# EAGLE library part A3S56 (library TL-WR703N)
256Mb DDR SDRAM Copyright © 2012, Michel Stempin, All rights reserved Licenced under Creative Commons CC BY-SA 3.0 <http://creativecommons.org/licenses/by-sa/3.0/deed.en> license.
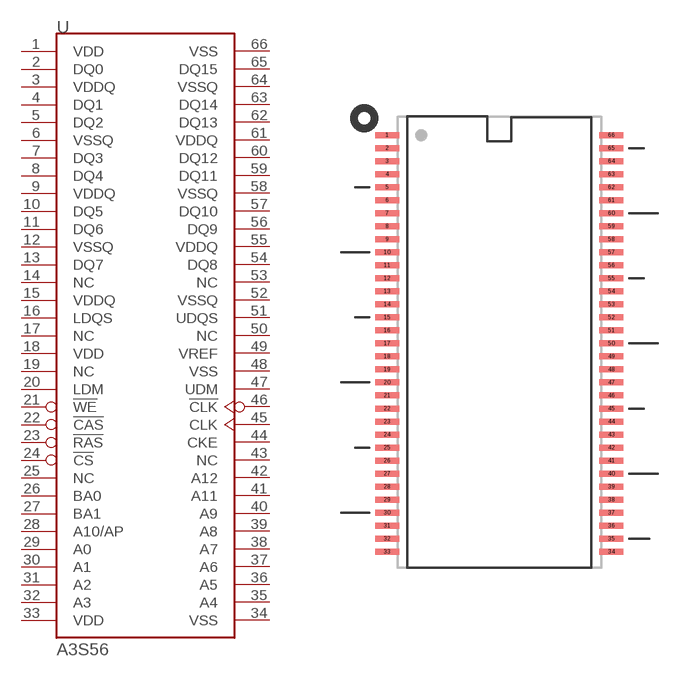
[diagram p1: symbol with the pads of TSOP66; footprint TSOP66]

Designator prefix U

## A3S56F30FTP (WIDTH: 8-bit), A3S56F40FTP (WIDTH: 16-bit)  [TSOP66]
1  VDD  pwr
2  DQ0
3  VDDQ  pwr
4  DQ1
5  DQ2
6  VSSQ  pwr
7  DQ3
8  DQ4
9  VDDQ  pwr
10  DQ5
11  DQ6
12  VSSQ  pwr
13  DQ7
14  NC  nc
15  VDDQ  pwr
16  LDQS  in
17  NC  nc
18  VDD  pwr
19  NC  nc
20  LDM  in
21  !WE  in
22  !CAS  in
23  !RAS  in
24  !CS  in
25  NC  nc
26  BA0  in
27  BA1  in
28  A10/AP  in
29  A0  in
30  A1  in
31  A2  in
32  A3  in
33  VDD  pwr
34  VSS  pwr
35  A4  in
36  A5  in
37  A6  in
38  A7  in
39  A8  in
40  A9  in
41  A11  in
42  A12  in
43  NC  nc
44  CKE  in
45  CLK  in
46  !CLK  in
47  UDM  in
48  VSS  pwr
49  VREF  pwr
50  NC  nc
51  UDQS  in
52  VSSQ  pwr
53  NC  nc
54  DQ8
55  VDDQ  pwr
56  DQ9
57  DQ10
58  VSSQ  pwr
59  DQ11
60  DQ12
61  VDDQ  pwr
62  DQ13
63  DQ14
64  VSSQ  pwr
65  DQ15
66  VSS  pwr

## Footprint TSOP66 (pad centres in mm)
TSOP II 66-pin Thin Small-Outline Package Copyright © 2012, Michel Stempin, All rights reserved Licenced under Creative Commons CC BY-SA 3.0 <http://creativecommons.org/licenses/by-sa/3.0/deed.en> license.
smd 1.2 x 0.3: 1 -5.6,10.4; 2 -5.6,9.75; 3 -5.6,9.1; 4 -5.6,8.45; 5 -5.6,7.8; 6 -5.6,7.15; 7 -5.6,6.5; 8 -5.6,5.85; 9 -5.6,5.2; 10 -5.6,4.55; 11 -5.6,3.9; 12 -5.6,3.25; 13 -5.6,2.6; 14 -5.6,1.95; 15 -5.6,1.3; 16 -5.6,0.65; 17 -5.6,0; 18 -5.6,-0.65; 19 -5.6,-1.3; 20 -5.6,-1.95; 21 -5.6,-2.6; 22 -5.6,-3.25; 23 -5.6,-3.9; 24 -5.6,-4.55; 25 -5.6,-5.2; 26 -5.6,-5.85; 27 -5.6,-6.5; 28 -5.6,-7.15; 29 -5.6,-7.8; 30 -5.6,-8.45; 31 -5.6,-9.1; 32 -5.6,-9.75; 33 -5.6,-10.4; 34 5.6,-10.4; 35 5.6,-9.75; 36 5.6,-9.1; 37 5.6,-8.45; 38 5.6,-7.8; 39 5.6,-7.15; 40 5.6,-6.5; 41 5.6,-5.85; 42 5.6,-5.2; 43 5.6,-4.55; 44 5.6,-3.9; 45 5.6,-3.25; 46 5.6,-2.6; 47 5.6,-1.95; 48 5.6,-1.3; 49 5.6,-0.65; 50 5.6,0; 51 5.6,0.65; 52 5.6,1.3; 53 5.6,1.95; 54 5.6,2.6; 55 5.6,3.25; 56 5.6,3.9; 57 5.6,4.55; 58 5.6,5.2; 59 5.6,5.85; 60 5.6,6.5; 61 5.6,7.15; 62 5.6,7.8; 63 5.6,8.45; 64 5.6,9.1; 65 5.6,9.75; 66 5.6,10.4